# EAGLE library part E-UC3843BN (library ST Microelctronics_By_element14_Batch_1)
PWM CONTROLLER
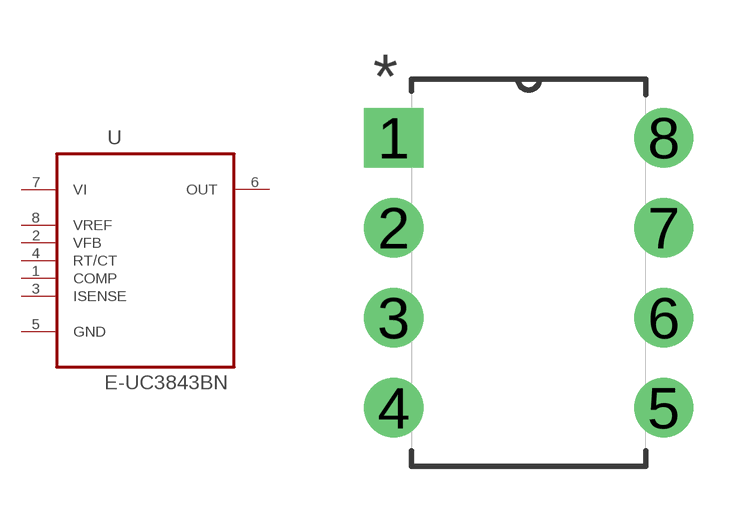
[diagram p4: symbol with the pads of DIP254P762X508-8; footprint DIP254P762X508-8]

Designator prefix U

## E-UC3843BN (MPN: E-UC3843BN; OC_FARNELL: 9882847; OC_NEWARK: 25M9050; PACKAGE: PDIP-8; SUPPLIER: STMICROELECTRONICS)  [DIP254P762X508-8]
1  COMP  pas
2  VFB  pas
3  ISENSE  in
4  RT/CT  pas
5  GND  pas
6  OUT  out
7  VI  pwr
8  VREF  pas

## Footprint DIP254P762X508-8 (pad centres in mm)
drill 1.118 square: 1 -7.62,7.62
drill 1.118: 2 -7.62,5.08; 3 -7.62,2.54; 4 -7.62,0; 5 0,0; 6 0,2.54; 7 0,5.08; 8 0,7.62